# Altium footprint library Capacitors.PcbLib: 10 footprints
Each footprint in its own frame and in the unit in brackets; x right, y up, seen from the top. Pads: shape width x height; smd on the part's side, far side on the other; paste and mask are expansions set on the pad; w line width, h text height; cw(c..) or ccw(c..) is an arc to the next point about the centre after c.
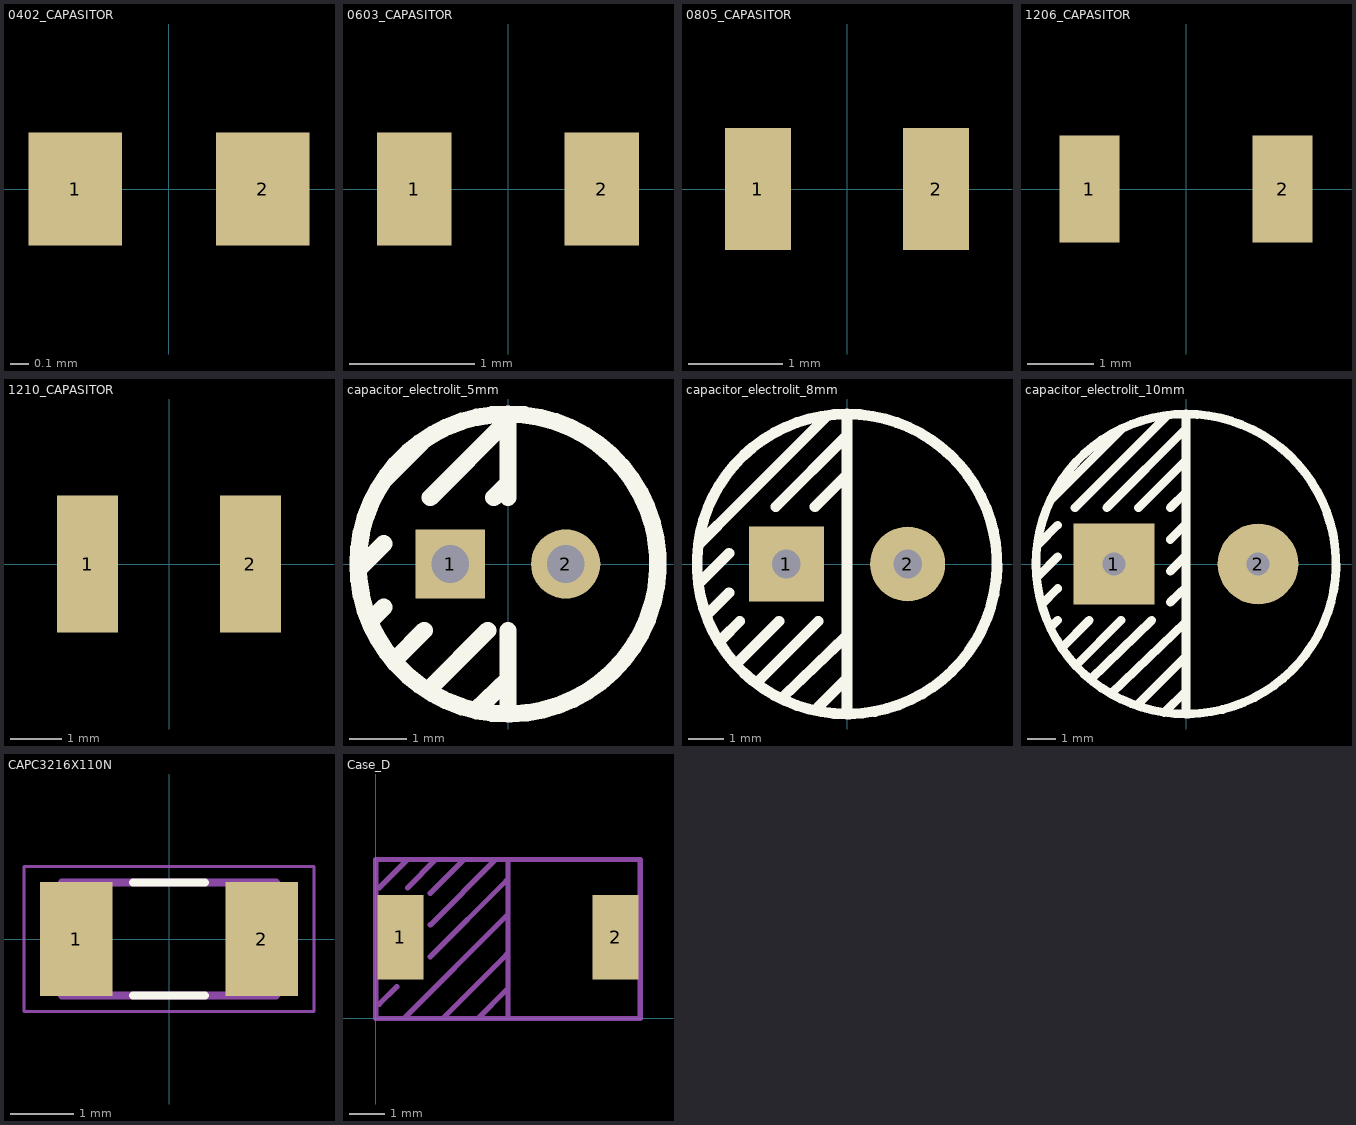
[diagram p0: the footprints below, top view; thin cyan lines are the x and y axes]

## 0402_CAPASITOR [mm] "Resistor\Capasitor"
pads (2):
  rect 0.5x0.6 smd: 1(-0.5,0) 2(0.5,0)
3D body "0402_capasitor.STEP": height 0.55, standoff 0, extent -0.5,-0.25 0.5,0.25

## 0603_CAPASITOR [mm] "Resistor\Capasitor"
pads (2):
  rect 0.6x0.9 smd: 1(-0.75,0) 2(0.75,0)
3D body "0603_capasitor.STEP": height 0.9, standoff 0, extent -0.8,-0.405 0.8,0.405

## 0805_CAPASITOR [mm] "Resistor\Capasitor"
pads (2):
  rect 0.7x1.3 smd: 1(-0.95,0) 2(0.95,0)
3D body "0805_capasitor.STEP": height 0.88, standoff 0, extent -1,-0.625 1,0.625

## 1206_CAPASITOR [mm] "Resistor\Capasitor"
pads (2):
  rect 0.9x1.6 smd: 1(-1.45,0) 2(1.45,0)
3D body "1206_capasitor.STEP": height 1.9, standoff 0, extent -1.6,-0.8 1.6,0.8

## 1210_CAPASITOR [mm] "Resistor\Capasitor"
pads (2):
  rect 1.2x2.7 smd: 1(-1.6,0) 2(1.6,0)
3D body "1210_capasitor.STEP": height 2.5, standoff 0, extent -1.6,-1.25 1.6,1.25

## capacitor_electrolit_5mm [mm]
pads (2):
  rect 1.2x1.2 hole 0.65: 1(-1,0)
  round 1.2 hole 0.65: 2(1,0)
Top Overlay:
  lines w0.3: -2.6,-0.1 -2.152,0.348 ; -2.35,-0.95 -2.152,-0.752 ; -2.15,1.45 -1.5,2.1 ; -1.95,-1.65 -1.452,-1.152 ; -1.35,-2.15 -0.352,-1.152 ; -1.348,1.152 0,2.5 ; -0.562,-2.54 0,-2 ; -0.248,1.152 0,1.4 ; 0,-1.152 0,-2.6 cw(c0,0) 0,2.6 ; 0,1.152 0,2.6 ; 0.043,-2.6 ccw(c0,0) 0,2.6
3D body "CapEL_2x5x11.4_BlaAk.STEP": height 12.7, standoff -2.5, extent -2.5,-2.5 2.5,2.5

## capacitor_electrolit_8mm [mm]
pads (2):
  rect 2.1x2.1 hole 0.8: 1(-1.7,0)
  round 2.1 hole 0.8: 2(1.7,0)
Top Overlay:
  lines w0.3: -4.1,-0.5 -3.302,0.298 ; -4.1,0.6 -3.1,1.6 ; -3.9,-1.4 -3.302,-0.802 ; -3.5,-2.1 -3.002,-1.602 ; -3.1,-2.8 -1.902,-1.602 ; -3.098,1.602 -0.55,4.15 ; -2.5,-3.3 -0.802,-1.602 ; -1.998,1.602 0,3.6 ; -1.785,-3.716 0,-2 ; -0.898,1.602 0,2.5 ; -0.8,-4 0,-3.2 ; 0.07,-4.199 ccw(c0,0) 0,4.2 ; 0,4.2 ccw(c0,0) 0,-4.2 0,4.2

## capacitor_electrolit_10mm [mm]
pads (2):
  rect 2.8x2.8 hole 0.8: 1(-2.5,0)
  round 2.8 hole 0.8: 2(2.5,0)
Top Overlay:
  lines w0.3: -5.1,-0.4 -4.452,0.248 ; -5.1,0.7 -4.452,1.348 ; -5,-1.4 -4.452,-0.852 ; -4.7,-2.2 -4.452,-1.952 ; -4.7,2.2 -2.2,4.7 ; -4.3,-2.9 -3.352,-1.952 ; -3.848,1.952 -0.65,5.15 ; -3.8,-3.5 -2.252,-1.952 ; -3.3,-4 -1.188,-1.952 ; -2.748,1.952 0,4.7 ; -2.6,-4.5 0,-2 ; -1.7,-4.9 0,-3.2 ; -1.648,1.952 0,3.6 ; -0.75,-5.15 0,-4.4 ; -0.548,-1.332 0,-0.8 ; -0.548,-0.248 0,0.3 ; -0.548,0.852 0,1.4 ; -0.548,1.952 0,2.5 ; 0.087,-5.199 ccw(c0,0) 0,5.2 ; 0,5.2 ccw(c0,0) 0,-5.2 0,5.2

## CAPC3216X110N [mm] "Case A / 1206"
pads (2):
  rect 1.16x1.82 smd paste+0 mask+0.102: 1(-1.475,0) 2(1.475,0)
Top Overlay:
  lines w0.127: -0.57,-0.9 0.57,-0.9 ; -0.57,0.9 0.57,0.9
Mechanical 13:
  lines w0.127: -1.7,-0.9 1.7,-0.9 1.7,0.9 -1.7,0.9 -1.7,-0.9
Mechanical 15:
  lines w0.05: -2.308,-1.15 2.308,-1.15 2.308,1.15 -2.308,1.15 -2.308,-1.15
3D body "step_temp.STEP": height 1.8, standoff 0, extent -1.6,-0.8 1.6,0.8

## Case_D [mm] "D (EIA 7343-31)  7,3 ? 4,3 ? 2,4"
pads (2):
  rect 1.3x2.4 smd: 1(0.7,2.3) 2(6.8,2.3)
Mechanical 1:
  lines w0.15: 0.1,0.4 0.6,0.9 ; 0.1,3.7 0.9,4.5 ; 0.6,0 0.8,0 3.7,2.9 ; 0.9,3.7 1.7,4.5 ; 1.55,1.75 3.7,3.9 ; 1.55,2.65 3.4,4.5 ; 1.55,3.55 2.5,4.5 ; 1.7,0 1.9,0 3.7,1.8 ; 2.9,0 3.7,0.8 ; 3.75,0 3.75,4.5 ; 0,0 7.5,0 7.5,4.5 0,4.5 0,0